# Altium footprint library IMTP Разъемы.PcbLib: 43 footprints (part 1 of 3)
Each footprint in its own frame and in the unit in brackets; x right, y up, seen from the top. Pads: shape width x height; smd on the part's side, far side on the other; paste and mask are expansions set on the pad; w line width, h text height; cw(c..) or ccw(c..) is an arc to the next point about the centre after c.
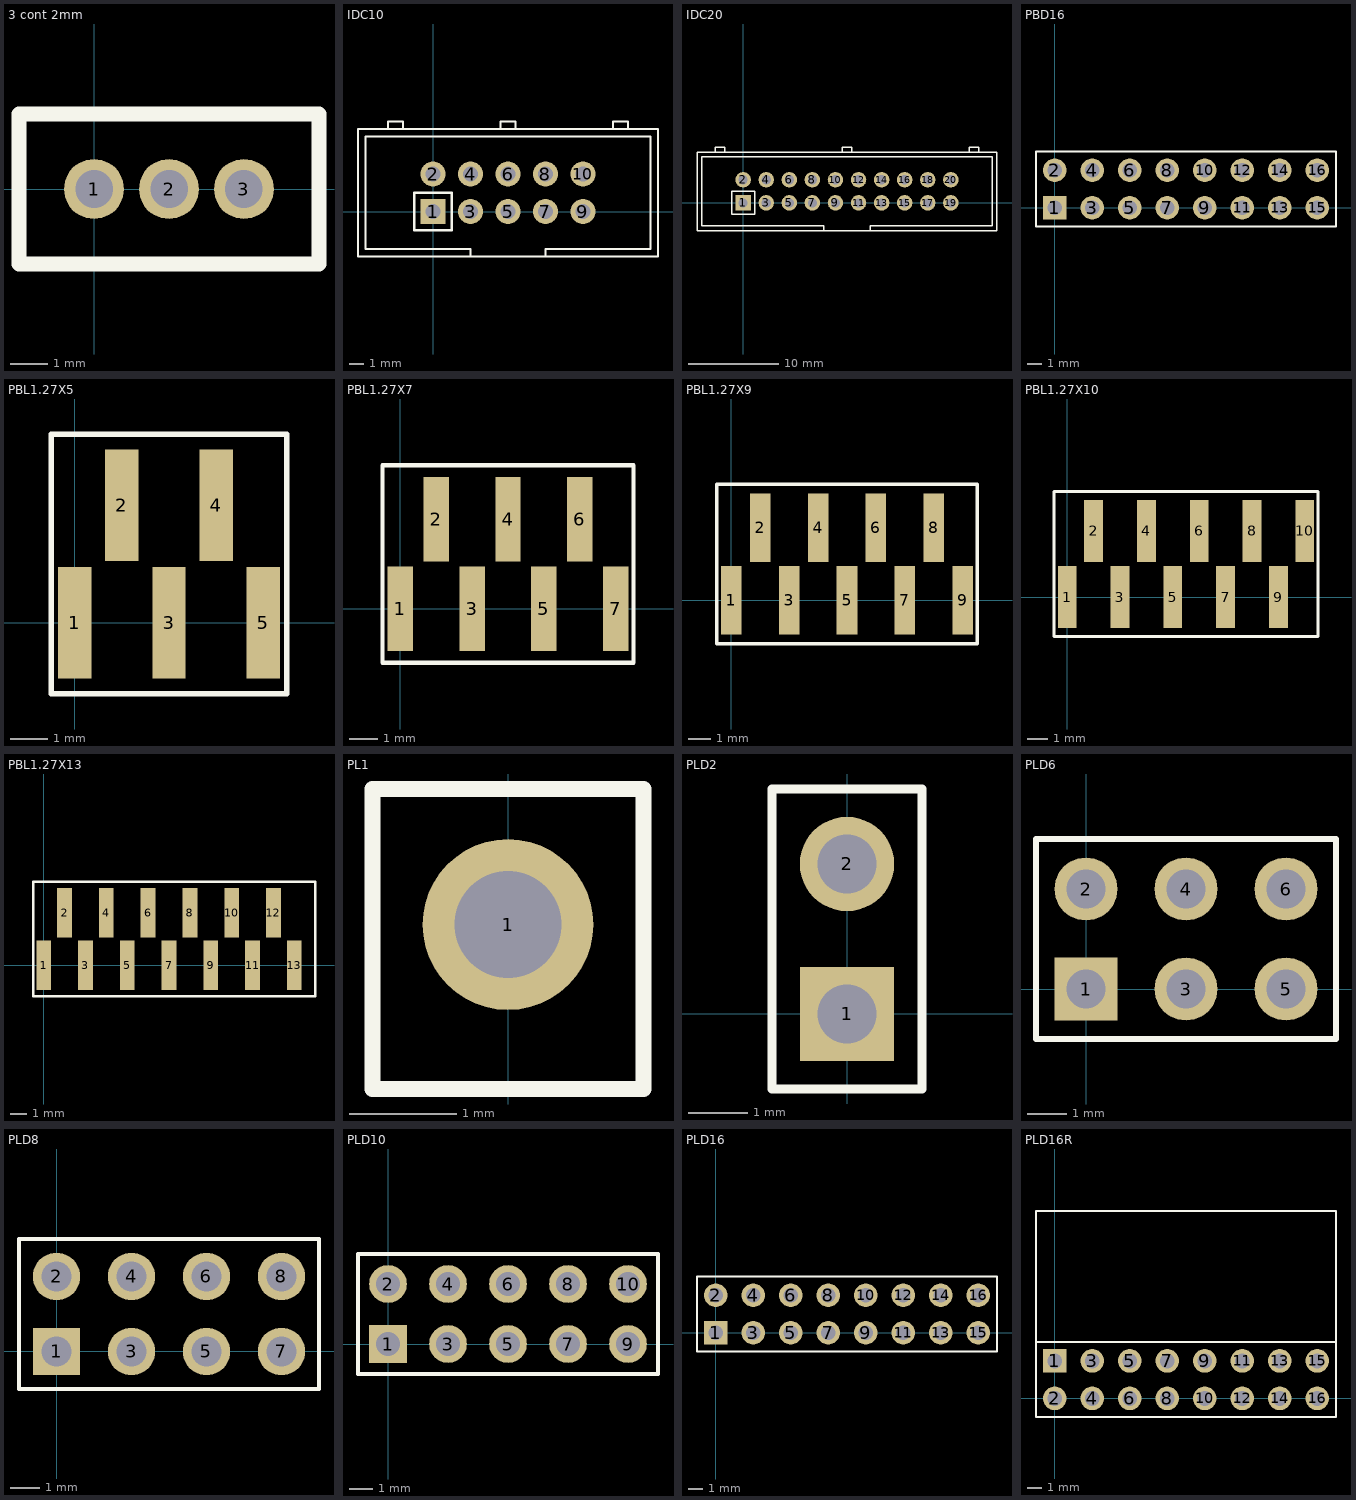
[diagram p0: the footprints below, top view; thin cyan lines are the x and y axes]

## 3 cont 2mm [mm]
height 7
pads (3):
  round 1.6 hole 1: 1(0,0) 2(2,0) 3(4,0)
Top Overlay:
  lines w0.4: -2,-2 -2,2 6,2 6,-2 -2,-2

## IDC10 [mm]
pads (10):
  rect 1.7x1.7 hole 1: 1(0,0)
  round 1.7 hole 1: 2(0,2.54) 3(2.54,0) 4(2.54,2.54) 5(5.08,0) 6(5.08,2.54) 7(7.62,0) 8(7.62,2.54) 9(10.16,0) 10(10.16,2.54)
Top Overlay:
  lines w0.15: -3.048,5.588 -3.048,6.096 -2.032,6.096 -2.032,5.588 ; 2.54,-3.048 2.54,-2.54 -4.572,-2.54 -4.572,5.08 14.732,5.08 14.732,-2.54 7.62,-2.54 7.62,-3.048 ; 4.572,5.588 4.572,6.096 5.588,6.096 5.588,5.588 ; 12.192,5.588 12.192,6.096 13.208,6.096 13.208,5.588 ; -5.08,-3.048 15.24,-3.048 15.24,5.588 -5.08,5.588 -5.08,-3.048 ; -1.27,-1.27 1.27,-1.27 1.27,1.27 -1.27,1.27 -1.27,-1.27
3D body: height 9, standoff 0.1, extent -5.08,-3.048 15.24,5.588
3D body: height 9, standoff 0.1, extent 12.192,5.588 13.208,6.096
3D body: height 9, standoff 0.1, extent 4.572,5.588 5.588,6.096
3D body: height 9, standoff 0.1, extent -3.048,5.588 -2.032,6.096
3D body: height 7, standoff -3, extent -0.254,2.286 0.254,2.794
3D body: height 7, standoff -3, extent -0.254,-0.254 0.254,0.254
3D body: height 7, standoff -3, extent 2.286,2.286 2.794,2.794
3D body: height 7, standoff -3, extent 2.286,-0.254 2.794,0.254
3D body: height 7, standoff -3, extent 4.826,2.286 5.334,2.794
3D body: height 7, standoff -3, extent 4.826,-0.254 5.334,0.254
3D body: height 7, standoff -3, extent 7.366,2.286 7.874,2.794
3D body: height 7, standoff -3, extent 7.366,-0.254 7.874,0.254
3D body: height 7, standoff -3, extent 9.906,2.286 10.414,2.794
3D body: height 7, standoff -3, extent 9.906,-0.254 10.414,0.254
3D body: height 2, standoff 0.1, extent -5.08,-3.048 15.24,5.588

## IDC20 [mm]
pads (20):
  rect 1.7x1.7 hole 1: 1(0,0)
  round 1.7 hole 1: 2(0,2.54) 3(2.54,0) 4(2.54,2.54) 5(5.08,0) 6(5.08,2.54) 7(7.62,0) 8(7.62,2.54) 9(10.16,0) 10(10.16,2.54) 11(12.7,0) 12(12.7,2.54) 13(15.24,0) 14(15.24,2.54) 15(17.78,0) 16(17.78,2.54) 17(20.32,0) 18(20.32,2.54) 19(22.86,0) 20(22.86,2.54)
Top Overlay:
  lines w0.15: -3.048,5.588 -3.048,6.096 -2.032,6.096 -2.032,5.588 ; 8.89,-3.048 8.89,-2.54 -4.572,-2.54 -4.572,5.08 27.432,5.08 27.432,-2.54 13.97,-2.54 13.97,-3.048 ; 10.922,5.588 10.922,6.096 11.938,6.096 11.938,5.588 ; 24.892,5.588 24.892,6.096 25.908,6.096 25.908,5.588 ; -5.08,-3.048 27.94,-3.048 27.94,5.588 -5.08,5.588 -5.08,-3.048 ; -1.27,-1.27 1.27,-1.27 1.27,1.27 -1.27,1.27 -1.27,-1.27
3D body: height 7, standoff -3, extent 22.606,-0.254 23.114,0.254
3D body: height 7, standoff -3, extent 22.606,2.286 23.114,2.794
3D body: height 7, standoff -3, extent 20.066,-0.254 20.574,0.254
3D body: height 7, standoff -3, extent 20.066,2.286 20.574,2.794
3D body: height 7, standoff -3, extent 17.526,-0.254 18.034,0.254
3D body: height 7, standoff -3, extent 17.526,2.286 18.034,2.794
3D body: height 7, standoff -3, extent 14.986,-0.254 15.494,0.254
3D body: height 7, standoff -3, extent 14.986,2.286 15.494,2.794
3D body: height 7, standoff -3, extent 12.446,-0.254 12.954,0.254
3D body: height 7, standoff -3, extent 12.446,2.286 12.954,2.794
3D body: height 9, standoff 0.1, extent -5.08,-3.048 27.94,5.588
3D body: height 9, standoff 0.1, extent 24.892,5.588 25.908,6.096
3D body: height 9, standoff 0.1, extent 10.922,5.588 11.938,6.096
3D body: height 9, standoff 0.1, extent -3.048,5.588 -2.032,6.096
3D body: height 7, standoff -3, extent -0.254,2.286 0.254,2.794
3D body: height 7, standoff -3, extent -0.254,-0.254 0.254,0.254
3D body: height 7, standoff -3, extent 2.286,2.286 2.794,2.794
3D body: height 7, standoff -3, extent 2.286,-0.254 2.794,0.254
3D body: height 7, standoff -3, extent 4.826,2.286 5.334,2.794
3D body: height 7, standoff -3, extent 4.826,-0.254 5.334,0.254
3D body: height 7, standoff -3, extent 7.366,2.286 7.874,2.794
3D body: height 7, standoff -3, extent 7.366,-0.254 7.874,0.254
3D body: height 7, standoff -3, extent 9.906,2.286 10.414,2.794
3D body: height 7, standoff -3, extent 9.906,-0.254 10.414,0.254
3D body: height 2, standoff 0.1, extent -5.08,-3.048 27.94,5.588

## PBD16 [mm]
height 9
pads (16):
  rect 1.6x1.6 hole 1: 1(0,0)
  round 1.6 hole 1: 2(0,2.54) 3(2.54,0) 4(2.54,2.54) 5(5.08,0) 6(5.08,2.54) 7(7.62,0) 8(7.62,2.54) 9(10.16,0) 10(10.16,2.54) 11(12.7,0) 12(12.7,2.54) 13(15.24,0) 14(15.24,2.54) 15(17.78,0) 16(17.78,2.54)
Top Overlay:
  lines w0.15: -1.27,-1.27 -1.27,3.81 19.05,3.81 19.05,-1.27 -1.27,-1.27
3D body: height 8.99, standoff 0.1, extent -1.27,-1.27 19.05,3.81
3D body: height 10, standoff -3, extent -0.254,-0.254 0.254,0.254
3D body: height 10, standoff -3, extent 2.286,2.286 2.794,2.794
3D body: height 10, standoff -3, extent 4.826,2.286 5.334,2.794
3D body: height 10, standoff -3, extent 2.286,-0.254 2.794,0.254
3D body: height 10, standoff -3, extent 4.826,-0.254 5.334,0.254
3D body: height 10, standoff -3, extent 7.366,2.286 7.874,2.794
3D body: height 10, standoff -3, extent 7.366,-0.254 7.874,0.254
3D body: height 10, standoff -3, extent 9.906,2.286 10.414,2.794
3D body: height 10, standoff -3, extent 9.906,-0.254 10.414,0.254
3D body: height 10, standoff -3, extent 12.446,2.286 12.954,2.794
3D body: height 10, standoff -3, extent 12.446,-0.254 12.954,0.254
3D body: height 10, standoff -3, extent 14.986,2.286 15.494,2.794
3D body: height 10, standoff -3, extent 14.986,-0.254 15.494,0.254
3D body: height 10, standoff -3, extent 17.526,2.286 18.034,2.794
3D body: height 10, standoff -3, extent 17.526,-0.254 18.034,0.254
3D body: height 10, standoff -3, extent -0.254,2.286 0.254,2.794

## PBL1.27X5 [mm]
height 5
pads (5):
  rect 0.9x3 smd: 1(0,0) 2(1.27,3.175) 3(2.54,0) 4(3.81,3.175) 5(5.08,0)
Top Overlay:
  lines w0.15: -0.635,-1.905 5.715,-1.905 5.715,5.08 -0.635,5.08 -0.635,-1.905
3D body: height 5.5, standoff 0, extent 4.826,1.397 5.334,1.905
3D body: height 5.5, standoff 0, extent 3.556,1.397 4.064,1.905
3D body: height 5.5, standoff 0, extent 2.286,1.397 2.794,1.905
3D body: height 5.5, standoff 0, extent 1.016,1.397 1.524,1.905
3D body: height 5.49, standoff 0.1, extent -0.635,0 5.715,3.175
3D body: height 5.5, standoff 0, extent -0.254,1.397 0.254,1.905

## PBL1.27X7 [mm]
height 5
pads (7):
  rect 0.9x3 smd: 1(0,0) 2(1.27,3.175) 3(2.54,0) 4(3.81,3.175) 5(5.08,0) 6(6.35,3.175) 7(7.62,0)
Top Overlay:
  lines w0.15: -0.635,-1.905 8.255,-1.905 8.255,5.08 -0.635,5.08 -0.635,-1.905
3D body: height 5.5, standoff 0, extent 7.366,1.397 7.874,1.905
3D body: height 5.5, standoff 0, extent 6.096,1.397 6.604,1.905
3D body: height 5.5, standoff 0, extent 4.826,1.397 5.334,1.905
3D body: height 5.5, standoff 0, extent 3.556,1.397 4.064,1.905
3D body: height 5.5, standoff 0, extent 2.286,1.397 2.794,1.905
3D body: height 5.5, standoff 0, extent 1.016,1.397 1.524,1.905
3D body: height 5.49, standoff 0.1, extent -0.635,0 8.255,3.175
3D body: height 5.5, standoff 0, extent -0.254,1.397 0.254,1.905

## PBL1.27X9 [mm]
height 5
pads (9):
  rect 0.9x3 smd: 1(0,0) 2(1.27,3.175) 3(2.54,0) 4(3.81,3.175) 5(5.08,0) 6(6.35,3.175) 7(7.62,0) 8(8.89,3.175) 9(10.16,0)
Top Overlay:
  lines w0.15: -0.635,-1.905 -0.635,5.08 10.795,5.08 10.795,-1.905 -0.635,-1.905
3D body: height 5.5, standoff 0, extent -0.254,1.397 0.254,1.905
3D body: height 5.49, standoff 0.1, extent -0.635,0 10.795,3.175
3D body: height 5.5, standoff 0, extent 1.016,1.397 1.524,1.905
3D body: height 5.5, standoff 0, extent 2.286,1.397 2.794,1.905
3D body: height 5.5, standoff 0, extent 3.556,1.397 4.064,1.905
3D body: height 5.5, standoff 0, extent 4.826,1.397 5.334,1.905
3D body: height 5.5, standoff 0, extent 6.096,1.397 6.604,1.905
3D body: height 5.5, standoff 0, extent 7.366,1.397 7.874,1.905
3D body: height 5.5, standoff 0, extent 8.636,1.397 9.144,1.905
3D body: height 5.5, standoff 0, extent 9.906,1.397 10.414,1.905

## PBL1.27X10 [mm]
height 5
pads (10):
  rect 0.9x3 smd: 1(0,0) 2(1.27,3.175) 3(2.54,0) 4(3.81,3.175) 5(5.08,0) 6(6.35,3.175) 7(7.62,0) 8(8.89,3.175) 9(10.16,0) 10(11.43,3.175)
Top Overlay:
  lines w0.15: -0.635,-1.905 12.065,-1.905 12.065,5.08 -0.635,5.08 -0.635,-1.905
3D body: height 5.5, standoff 0, extent 11.176,1.397 11.684,1.905
3D body: height 5.5, standoff 0, extent 9.906,1.397 10.414,1.905
3D body: height 5.5, standoff 0, extent 8.636,1.397 9.144,1.905
3D body: height 5.5, standoff 0, extent 7.366,1.397 7.874,1.905
3D body: height 5.5, standoff 0, extent 6.096,1.397 6.604,1.905
3D body: height 5.5, standoff 0, extent 4.826,1.397 5.334,1.905
3D body: height 5.5, standoff 0, extent 3.556,1.397 4.064,1.905
3D body: height 5.5, standoff 0, extent 2.286,1.397 2.794,1.905
3D body: height 5.5, standoff 0, extent 1.016,1.397 1.524,1.905
3D body: height 5.49, standoff 0.1, extent -0.635,0 12.065,3.175
3D body: height 5.5, standoff 0, extent -0.254,1.397 0.254,1.905

## PBL1.27X13 [mm]
height 5
pads (13):
  rect 0.9x3 smd: 1(0,0) 2(1.27,3.175) 3(2.54,0) 4(3.81,3.175) 5(5.08,0) 6(6.35,3.175) 7(7.62,0) 8(8.89,3.175) 9(10.16,0) 10(11.43,3.175) 11(12.7,0) 12(13.97,3.175) 13(15.24,0)
Top Overlay:
  lines w0.15: -0.635,-1.905 -0.635,5.08 16.51,5.08 16.51,-1.905 -0.635,-1.905
3D body: height 5.5, standoff 0, extent 14.986,1.397 15.494,1.905
3D body: height 5.5, standoff 0, extent 13.716,1.397 14.224,1.905
3D body: height 5.5, standoff 0, extent 12.446,1.397 12.954,1.905
3D body: height 5.5, standoff 0, extent -0.254,1.397 0.254,1.905
3D body: height 5.49, standoff 0.1, extent -0.635,0 16.51,3.175
3D body: height 5.5, standoff 0, extent 1.016,1.397 1.524,1.905
3D body: height 5.5, standoff 0, extent 2.286,1.397 2.794,1.905
3D body: height 5.5, standoff 0, extent 3.556,1.397 4.064,1.905
3D body: height 5.5, standoff 0, extent 4.826,1.397 5.334,1.905
3D body: height 5.5, standoff 0, extent 6.096,1.397 6.604,1.905
3D body: height 5.5, standoff 0, extent 7.366,1.397 7.874,1.905
3D body: height 5.5, standoff 0, extent 8.636,1.397 9.144,1.905
3D body: height 5.5, standoff 0, extent 9.906,1.397 10.414,1.905
3D body: height 5.5, standoff 0, extent 11.176,1.397 11.684,1.905

## PL1 [mm]
height 9
pads (1):
  round 1.6 hole 1: 1(0,2.54)
Top Overlay:
  lines w0.15: -1.27,1 -1.27,3.81 1.27,3.81 1.27,1 -1.27,1
3D body: height 9, standoff -3, extent -0.254,2.286 0.254,2.794
3D body: height 2.5, standoff 0.1, extent -1.27,1 1.27,3.81

## PLD2 [mm]
height 9
pads (2):
  rect 1.6x1.6 hole 1: 1(0,0)
  round 1.6 hole 1: 2(0,2.54)
Top Overlay:
  lines w0.15: -1.27,-1.27 -1.27,3.81 1.27,3.81 1.27,-1.27 -1.27,-1.27
3D body: height 9, standoff -3, extent -0.254,-0.252 0.254,0.256
3D body: height 10, standoff -3, extent -0.254,-0.254 0.254,0.254
3D body: height 9, standoff -3, extent -0.254,2.286 0.254,2.794
3D body: height 2.5, standoff 0.1, extent -1.27,-1.27 1.27,3.81

## PLD6 [mm]
height 9
pads (6):
  rect 1.6x1.6 hole 1: 1(0,0)
  round 1.6 hole 1: 2(0,2.54) 3(2.54,0) 4(2.54,2.54) 5(5.08,0) 6(5.08,2.54)
Top Overlay:
  lines w0.15: -1.27,-1.27 6.35,-1.27 6.35,3.81 -1.27,3.81 -1.27,-1.27
3D body: height 2.5, standoff 0.1, extent -1.27,-1.27 6.35,3.81
3D body: height 10, standoff -3, extent -0.254,2.286 0.254,2.794
3D body: height 10, standoff -3, extent 2.286,2.286 2.794,2.794
3D body: height 10, standoff -3, extent 4.826,2.286 5.334,2.794
3D body: height 10, standoff -3, extent 4.826,-0.254 5.334,0.254
3D body: height 10, standoff -3, extent 2.286,-0.254 2.794,0.254
3D body: height 10, standoff -3, extent -0.254,-0.254 0.254,0.254

## PLD8 [mm]
height 9
pads (8):
  rect 1.6x1.6 hole 1: 1(0,0)
  round 1.6 hole 1: 2(0,2.54) 3(2.54,0) 4(2.54,2.54) 5(5.08,0) 6(5.08,2.54) 7(7.62,0) 8(7.62,2.54)
Top Overlay:
  lines w0.15: -1.27,-1.27 8.89,-1.27 8.89,3.81 -1.27,3.81 -1.27,-1.27
3D body: height 2.5, standoff 0.1, extent -1.27,-1.27 8.89,3.81
3D body: height 10, standoff -3, extent -0.254,2.286 0.254,2.794
3D body: height 10, standoff -3, extent 2.286,2.286 2.794,2.794
3D body: height 10, standoff -3, extent 4.826,2.286 5.334,2.794
3D body: height 10, standoff -3, extent 7.366,2.286 7.874,2.794
3D body: height 10, standoff -3, extent 7.366,-0.254 7.874,0.254
3D body: height 10, standoff -3, extent 4.826,-0.254 5.334,0.254
3D body: height 10, standoff -3, extent 2.286,-0.254 2.794,0.254
3D body: height 10, standoff -3, extent -0.254,-0.254 0.254,0.254

## PLD10 [mm]
height 9
pads (10):
  rect 1.6x1.6 hole 1: 1(0,0)
  round 1.6 hole 1: 2(0,2.54) 3(2.54,0) 4(2.54,2.54) 5(5.08,0) 6(5.08,2.54) 7(7.62,0) 8(7.62,2.54) 9(10.16,0) 10(10.16,2.54)
Top Overlay:
  lines w0.15: -1.27,-1.27 -1.27,3.81 11.43,3.81 11.43,-1.27 -1.27,-1.27
3D body: height 10, standoff -3, extent -0.254,-0.254 0.254,0.254
3D body: height 10, standoff -3, extent 2.286,-0.254 2.794,0.254
3D body: height 10, standoff -3, extent 4.826,-0.254 5.334,0.254
3D body: height 10, standoff -3, extent 7.366,-0.254 7.874,0.254
3D body: height 10, standoff -3, extent 9.906,-0.254 10.414,0.254
3D body: height 10, standoff -3, extent 9.906,2.286 10.414,2.794
3D body: height 10, standoff -3, extent 7.366,2.286 7.874,2.794
3D body: height 10, standoff -3, extent 4.826,2.286 5.334,2.794
3D body: height 10, standoff -3, extent 2.286,2.286 2.794,2.794
3D body: height 10, standoff -3, extent -0.254,2.286 0.254,2.794
3D body: height 2.5, standoff 0.1, extent -1.27,-1.27 11.43,3.81

## PLD16 [mm]
height 9
pads (16):
  rect 1.6x1.6 hole 1: 1(0,0)
  round 1.6 hole 1: 2(0,2.54) 3(2.54,0) 4(2.54,2.54) 5(5.08,0) 6(5.08,2.54) 7(7.62,0) 8(7.62,2.54) 9(10.16,0) 10(10.16,2.54) 11(12.7,0) 12(12.7,2.54) 13(15.24,0) 14(15.24,2.54) 15(17.78,0) 16(17.78,2.54)
Top Overlay:
  lines w0.15: -1.27,-1.27 -1.27,3.81 19.05,3.81 19.05,-1.27 -1.27,-1.27
3D body: height 10, standoff -3, extent -0.254,2.286 0.254,2.794
3D body: height 10, standoff -3, extent 17.526,-0.254 18.034,0.254
3D body: height 10, standoff -3, extent 17.526,2.286 18.034,2.794
3D body: height 10, standoff -3, extent 14.986,-0.254 15.494,0.254
3D body: height 10, standoff -3, extent 14.986,2.286 15.494,2.794
3D body: height 10, standoff -3, extent 12.446,-0.254 12.954,0.254
3D body: height 10, standoff -3, extent 12.446,2.286 12.954,2.794
3D body: height 10, standoff -3, extent 9.906,-0.254 10.414,0.254
3D body: height 10, standoff -3, extent 9.906,2.286 10.414,2.794
3D body: height 10, standoff -3, extent 7.366,-0.254 7.874,0.254
3D body: height 10, standoff -3, extent 7.366,2.286 7.874,2.794
3D body: height 10, standoff -3, extent 4.826,-0.254 5.334,0.254
3D body: height 10, standoff -3, extent 2.286,-0.254 2.794,0.254
3D body: height 10, standoff -3, extent 4.826,2.286 5.334,2.794
3D body: height 10, standoff -3, extent 2.286,2.286 2.794,2.794
3D body: height 10, standoff -3, extent -0.254,-0.254 0.254,0.254
3D body: height 2.5, standoff 0.1, extent -1.27,-1.27 19.05,3.81

## PLD16R [mm]
pads (16):
  rect 1.6x1.6 hole 1: 1(0,2.54)
  round 1.6 hole 1: 2(0,0) 3(2.54,2.54) 4(2.54,0) 5(5.08,2.54) 6(5.08,0) 7(7.62,2.54) 8(7.62,0) 9(10.16,2.54) 10(10.16,0) 11(12.7,2.54) 12(12.7,0) 13(15.24,2.54) 14(15.24,0) 15(17.78,2.54) 16(17.78,0)
Top Overlay:
  lines w0.15: -1.27,3.81 19.05,3.81 ; -1.27,-1.27 19.05,-1.27 19.05,12.7 -1.27,12.7 -1.27,-1.27
3D body: height 1.51, standoff 1, extent 17.526,2.286 18.034,12.7
3D body: height 4.05, standoff 3.54, extent 17.526,-0.254 18.034,12.7
3D body: height 4.05, standoff 3.54, extent 14.986,-0.254 15.494,12.7
3D body: height 4.05, standoff 3.54, extent 12.446,-0.254 12.954,12.7
3D body: height 4.05, standoff 3.54, extent 9.906,-0.254 10.414,12.7
3D body: height 4.05, standoff 3.54, extent 7.366,-0.254 7.874,12.7
3D body: height 4.05, standoff 3.54, extent 4.826,-0.254 5.334,12.7
3D body: height 4.05, standoff 3.54, extent 2.286,-0.254 2.794,12.7
3D body: height 4.05, standoff 3.54, extent -0.254,-0.254 0.254,12.7
3D body: height 3.54, standoff -3, extent -0.254,-0.254 0.254,0.254
3D body: height 1, standoff -3, extent 2.286,2.286 2.794,2.794
3D body: height 1, standoff -3, extent 4.826,2.286 5.334,2.794
3D body: height 3.54, standoff -3, extent 2.286,-0.254 2.794,0.254
3D body: height 3.54, standoff -3, extent 4.826,-0.254 5.334,0.254
3D body: height 1, standoff -3, extent 7.366,2.286 7.874,2.794
3D body: height 3.54, standoff -3, extent 7.366,-0.254 7.874,0.254
3D body: height 1, standoff -3, extent 9.906,2.286 10.414,2.794
3D body: height 3.54, standoff -3, extent 9.906,-0.254 10.414,0.254
3D body: height 1, standoff -3, extent 12.446,2.286 12.954,2.794
3D body: height 3.54, standoff -3, extent 12.446,-0.254 12.954,0.254
3D body: height 1, standoff -3, extent 14.986,2.286 15.494,2.794
3D body: height 3.54, standoff -3, extent 14.986,-0.254 15.494,0.254
3D body: height 1, standoff -3, extent 17.526,2.286 18.034,2.794
3D body: height 3.54, standoff -3, extent 17.526,-0.254 18.034,0.254
3D body: height 1, standoff -3, extent -0.254,2.286 0.254,2.794
3D body: height 5.08, standoff 0, extent -1.27,3.81 19.05,6.35
3D body: height 1.51, standoff 1, extent 14.986,2.286 15.494,12.7
3D body: height 1.51, standoff 1, extent 12.446,2.286 12.954,12.7
3D body: height 1.51, standoff 1, extent 9.906,2.286 10.414,12.7
3D body: height 1.51, standoff 1, extent 7.366,2.286 7.874,12.7
3D body: height 1.51, standoff 1, extent 4.826,2.286 5.334,12.7
3D body: height 1.51, standoff 1, extent 2.286,2.286 2.794,12.7
3D body: height 1.51, standoff 1, extent -0.254,2.286 0.254,12.7